# Altium footprint library PBO-5-S5.PcbLib: 1 footprints
Each footprint in its own frame and in the unit in brackets; x right, y up, seen from the top. Pads: shape width x height; smd on the part's side, far side on the other; paste and mask are expansions set on the pad; w line width, h text height; cw(c..) or ccw(c..) is an arc to the next point about the centre after c.
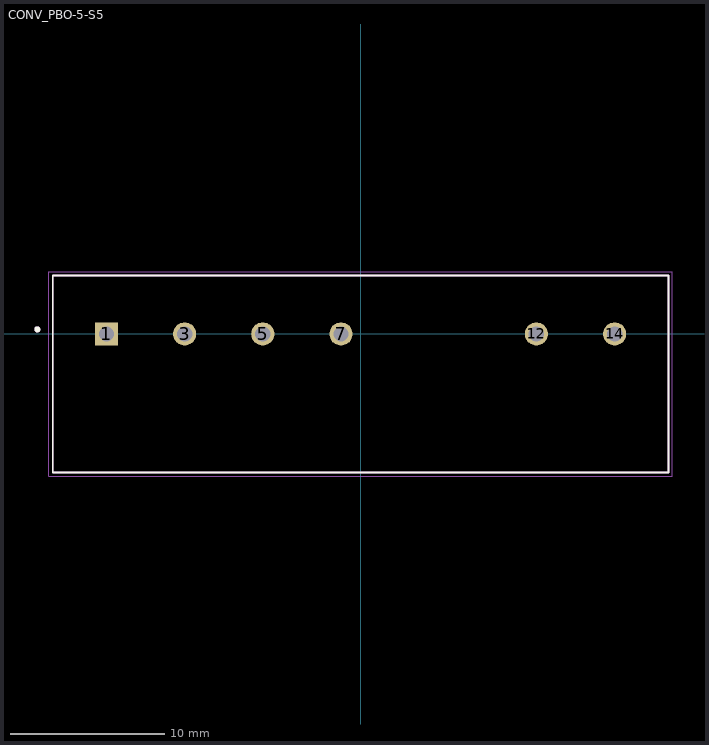
[diagram p0: the footprint, top view; thin cyan lines are the x and y axes]

## CONV_PBO-5-S5 [mm]
pads (6):
  rect 1.508x1.508 hole 1: 1(-16.51,0)
  round 1.508 hole 1: 3(-11.43,0) 5(-6.35,0) 7(-1.27,0) 12(11.43,0) 14(16.51,0)
Top Overlay:
  circle w0.2: c-21,0.3 r0.1
  lines w0.127: -20,-9 -20,3.8 20,3.8 20,-9 -20,-9
Mechanical 13:
  circle w0.2: c-21,0.3 r0.1
  lines w0.127: -20,-9 -20,3.8 20,3.8 20,-9 -20,-9
Mechanical 15:
  lines w0.05: -20.25,-9.25 -20.25,4.05 20.25,4.05 20.25,-9.25 -20.25,-9.25